# Altium footprint library AT GEN COIL.PcbLib: 1 footprints
Each footprint in its own frame and in the unit in brackets; x right, y up, seen from the top. Pads: shape width x height; smd on the part's side, far side on the other; paste and mask are expansions set on the pad; w line width, h text height; cw(c..) or ccw(c..) is an arc to the next point about the centre after c.
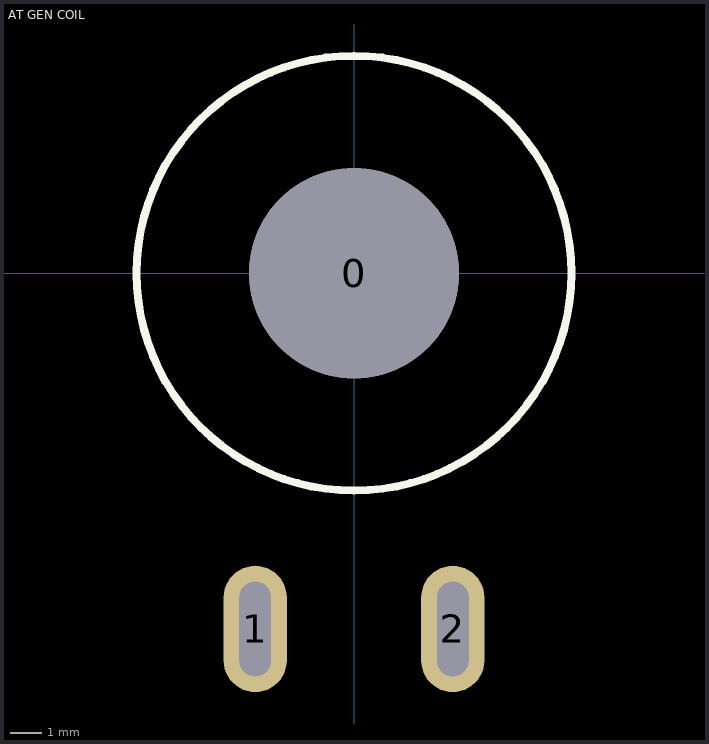
[diagram p0: the footprint, top view; thin cyan lines are the x and y axes]

## AT GEN COIL [mil] "AT Generator Coil"
height 1320
pads (3):
  round 266 hole 266 unplated: 0(0,0)
  oval 80x160 hole 40 slot 120 at 90 deg: 1(-125,-450) 2(125,-450)
Top Overlay:
  circle w10: c0,0 r275
3D body: height 1325, standoff -145, extent -279.99,-443.76 280.01,280